# Altium schematic symbol library Silabs.SchLib: 1 symbol
Pins are listed as number, name and electrical type; pins without a type are passive.

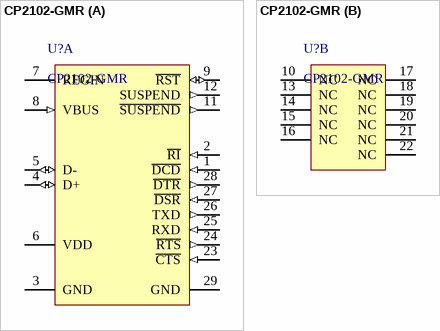
[diagram p0: symbol CP2102-GMR]

## CP2102-GMR
designator U?
Single-Chip USB to URAT Bridge, 3.3 V, -40 to 85 degC, 28-Pin QFN, RoHS, Tape and Reel; Manufacturer: Silicon Labs; Interface Circuit Standard 1: RS-232; Transmitter and Receiver FIFO Counter: No; Supply Current: 26mA; Operating Supply Voltage (Min): 3V; Operating Supply Voltage (Typ): 3.3V; Data Rate: 1000kbps; Operating Supply Voltage (Max): 3.6V; Number of Channels: 1; Package URL: http://www.silabs.com/Support%20Documents/TechnicalDocs/C8051T61x.pdf; Operating Temperature (Max): 85C; Datasheet URL: http://www.mouser.com/ds/2/368/CP2102-9-247052.pdf; Operating Temperature Classification: Industrial; Operating Temperature (Min): -40C; Package Description: 28-Pin Quad-Flat No-Leads Package, Body 5 x 5 mm, Pitch 0.5 mm; Manufacturer URL: http://www.silabs.com/; Rad Hardened: No; Package Reference: QFN-28; Pin Count: 28; Packaging: TapeandReel; Mounting: SurfaceMount; Package Type: QFNEP; Datasheet Version: Rev. 1.6, 12/2013
footprint SLAB-QFN-28-3125x3125TP_L (QFN, 28-Leads, Body 5x5mm, Pitch 0.5mm, Thermal Pad 3.13x3.13mm, IPC High Density)
part A pins: 1 ~{DCD} (in) "Data Carrier Detect control input (active low)", 2 ~{RI} (in) "Ring Indicator control input (active low)", 3 GND (power) "Ground", 4 D+ (io) "USB D+", 5 D- (io) "USB D-", 6 VDD (power) "3.0-3.6 V Power Supply Voltage Input. 3.3 V Voltage Regulator Output", 7 REGIN (power) "5 V Regulator Input. This pin is the input to the on-chip voltage regulator.", 8 VBUS (in) "VBUS Sense Input. This pin should be connected to the VBUS signal of a USB network. A 5 V signal on this pin indicates a USB network connection.", 9 ~{RST} (io) "Device Reset. Open-drain output of internal POR or VDD monitor. An external source can initiate a system reset by driving this pin low for at least 15 us.", 11 ~{SUSPEND} (out), 12 SUSPEND (out), 23 ~{CTS} (in) "Clear To Send control input (active low)", 24 ~{RTS} (out) "Ready to Send control output (active low)", 25 RXD (in) "Asynchronous data input (UART Receive)", 26 TXD (out) "Asynchronous data output (UART Transmit)", 27 ~{DSR} (in) "Data Set Ready control input (active low)", 28 ~{DTR} (out) "Data Terminal Ready control output (active low)", 29 GND (power) "Ground"
part B pins: 10 NC "These pins should be left unconnected or tied to VDD.", 13 NC "These pins should be left unconnected or tied to VDD.", 14 NC "These pins should be left unconnected or tied to VDD.", 15 NC "These pins should be left unconnected or tied to VDD.", 16 NC "These pins should be left unconnected or tied to VDD.", 17 NC "These pins should be left unconnected or tied to VDD.", 18 NC "These pins should be left unconnected or tied to VDD.", 19 NC "These pins should be left unconnected or tied to VDD.", 20 NC "These pins should be left unconnected or tied to VDD.", 21 NC "These pins should be left unconnected or tied to VDD.", 22 NC "These pins should be left unconnected or tied to VDD."